# EAGLE library part STM32L451REY6TR (library STM32L451REY6TR)
ARM Microcontrollers - MCU 16/32-BITS MICROS Source: Datasheet <http://www.st.com/content/ccc/resource/technical/document/datasheet/group3/95/fa/32/09/46/cb/45/35/DM00340475/files/DM00340475.pdf/jcr:content/translations/en.DM00340475.pdf>
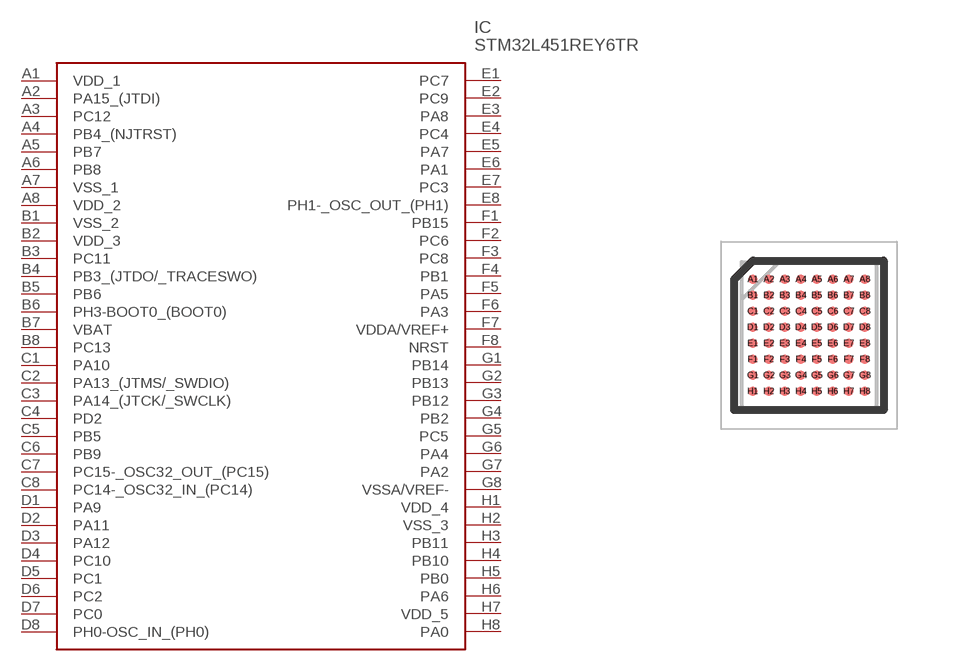
[diagram p0: symbol with the pads of BGA64C40P8X8_336X366X58; footprint BGA64C40P8X8_336X366X58]

Designator prefix IC

## STM32L451REY6TR (Description: ARM Microcontrollers - MCU 16/32-BITS MICROS; Height: 0.585mm; Manufacturer_Name: STMicroelectronics; Manufacturer_Part_Number: STM32L451REY6TR; Mouser_Part_Number: 511-STM32L451REY6TR; Mouser_Price-Stock: https://www.mouser.co.uk/ProductDetail/STMicroelectronics/STM32L451REY6TR?qs=Mv7BduZupUg2YTQ5MbUYvA%3D%3D)  [BGA64C40P8X8_336X366X58]
A1  VDD_1
A2  PA15_(JTDI)
A3  PC12
A4  PB4_(NJTRST)
A5  PB7
A6  PB8
A7  VSS_1
A8  VDD_2
B1  VSS_2
B2  VDD_3
B3  PC11
B4  PB3_(JTDO/_TRACESWO)
B5  PB6
B6  PH3-BOOT0_(BOOT0)
B7  VBAT
B8  PC13
C1  PA10
C2  PA13_(JTMS/_SWDIO)
C3  PA14_(JTCK/_SWCLK)
C4  PD2
C5  PB5
C6  PB9
C7  PC15-_OSC32_OUT_(PC15)
C8  PC14-_OSC32_IN_(PC14)
D1  PA9
D2  PA11
D3  PA12
D4  PC10
D5  PC1
D6  PC2
D7  PC0
D8  PH0-OSC_IN_(PH0)
E1  PC7
E2  PC9
E3  PA8
E4  PC4
E5  PA7
E6  PA1
E7  PC3
E8  PH1-_OSC_OUT_(PH1)
F1  PB15
F2  PC6
F3  PC8
F4  PB1
F5  PA5
F6  PA3
F7  VDDA/VREF+
F8  NRST
G1  PB14
G2  PB13
G3  PB12
G4  PB2
G5  PC5
G6  PA4
G7  PA2
G8  VSSA/VREF-
H1  VDD_4
H2  VSS_3
H3  PB11
H4  PB10
H5  PB0
H6  PA6
H7  VDD_5
H8  PA0

## Footprint BGA64C40P8X8_336X366X58 (pad centres in mm)
WLCSP64 - 64-ball, 3.357x3.657 mm 0.4 mm
smd 0.242 x 0.242: A1 -1.4,1.4; A2 -1,1.4; A3 -0.6,1.4; A4 -0.2,1.4; A5 0.2,1.4; A6 0.6,1.4; A7 1,1.4; A8 1.4,1.4; B1 -1.4,1; B2 -1,1; B3 -0.6,1; B4 -0.2,1; B5 0.2,1; B6 0.6,1; B7 1,1; B8 1.4,1; C1 -1.4,0.6; C2 -1,0.6; C3 -0.6,0.6; C4 -0.2,0.6; C5 0.2,0.6; C6 0.6,0.6; C7 1,0.6; C8 1.4,0.6; D1 -1.4,0.2; D2 -1,0.2; D3 -0.6,0.2; D4 -0.2,0.2; D5 0.2,0.2; D6 0.6,0.2; D7 1,0.2; D8 1.4,0.2; E1 -1.4,-0.2; E2 -1,-0.2; E3 -0.6,-0.2; E4 -0.2,-0.2; E5 0.2,-0.2; E6 0.6,-0.2; E7 1,-0.2; E8 1.4,-0.2; F1 -1.4,-0.6; F2 -1,-0.6; F3 -0.6,-0.6; F4 -0.2,-0.6; F5 0.2,-0.6; F6 0.6,-0.6; F7 1,-0.6; F8 1.4,-0.6; G1 -1.4,-1; G2 -1,-1; G3 -0.6,-1; G4 -0.2,-1; G5 0.2,-1; G6 0.6,-1; G7 1,-1; G8 1.4,-1; H1 -1.4,-1.4; H2 -1,-1.4; H3 -0.6,-1.4; H4 -0.2,-1.4; H5 0.2,-1.4; H6 0.6,-1.4; H7 1,-1.4; H8 1.4,-1.4